# EAGLE library part PPTRFBUS (library radiotubes)
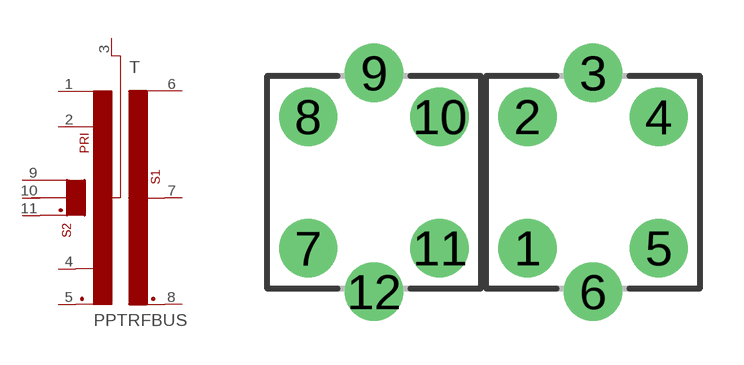
[diagram p117: symbol with the pads of HFTR12P; footprint HFTR12P]

Designator prefix T

## PPTRFBUS  [HFTR12P]
1  A  pas
2  G2  pas
3  +  pas
4  G2'  pas
5  A'  pas
6  L  pas
7  C  pas
8  L'  pas
9  F  pas
10  FC  pas
11  F'  pas

## Footprint HFTR12P (pad centres in mm)
drill 1.1 pad 2: 1 1.5,-2.25; 2 1.5,2.25; 4 6,2.25; 5 6,-2.25; 7 -6,-2.25; 8 -6,2.25; 10 -1.5,2.25; 11 -1.5,-2.25
drill 1.3 pad 2: 3 3.75,3.75; 6 3.75,-3.75; 9 -3.75,3.75; 12 -3.75,-3.75